# EAGLE library part MCU-K1986BE1QI (library MakBit)
Milandr K1986BE1QI LQFP-144 Cortex-M1 MCU
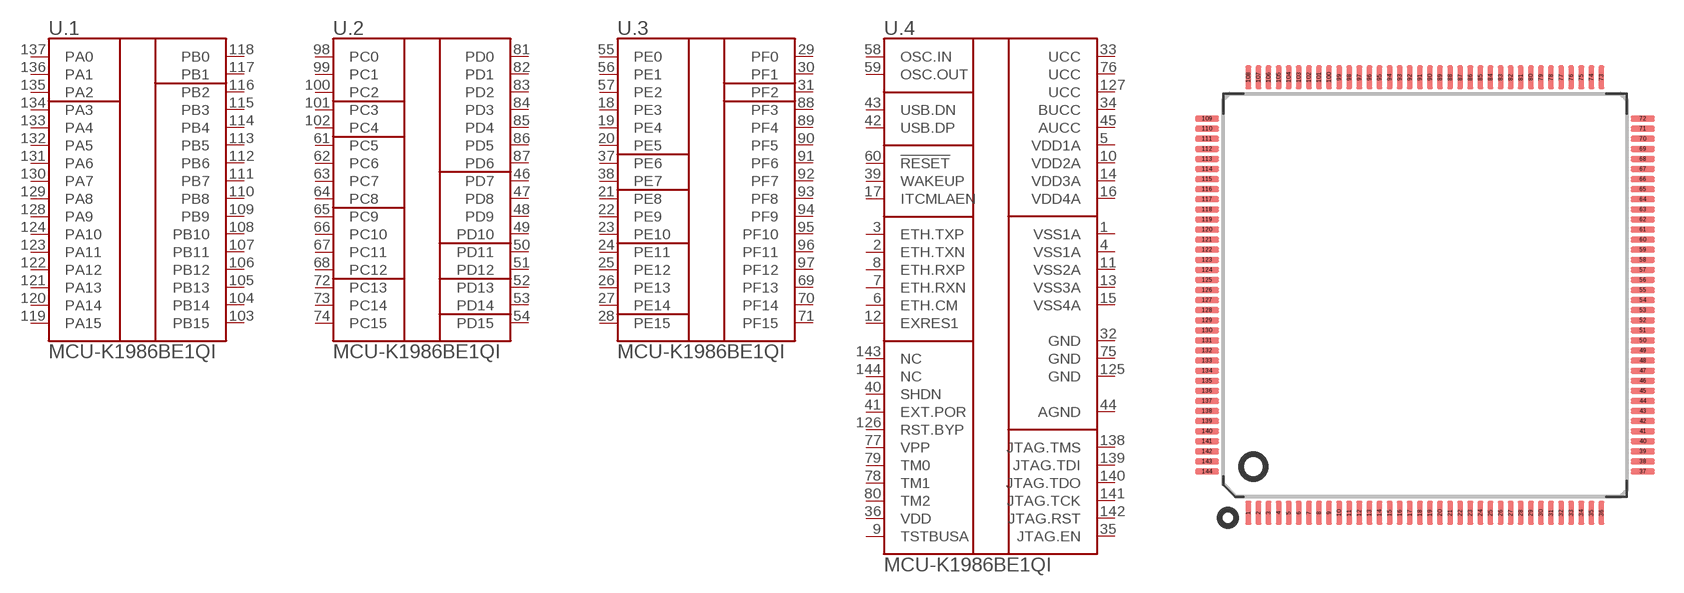
[diagram p18: symbol with the pads of LQFP144-0.5-20X20M; footprint LQFP144-0.5-20X20M]

Designator prefix U; gates .1=MCU-K1986BE1QI-1 .2=MCU-K1986BE1QI-2 .3=MCU-K1986BE1QI-3 .4=MCU-K1986BE1QI-4

## MCU-K1986BE1QI  [LQFP144-0.5-20X20M]
1  .4:VSS1A
2  .4:ETH.TXN
3  .4:ETH.TXP
4  .4:VSS1A
5  .4:VDD1A
6  .4:ETH.CM
7  .4:ETH.RXN
8  .4:ETH.RXP
9  .4:TSTBUSA
10  .4:VDD2A
11  .4:VSS2A
12  .4:EXRES1
13  .4:VSS3A
14  .4:VDD3A
15  .4:VSS4A
16  .4:VDD4A
17  .4:ITCMLAEN
18  .3:PE3
19  .3:PE4
20  .3:PE5
21  .3:PE8
22  .3:PE9
23  .3:PE10
24  .3:PE11
25  .3:PE12
26  .3:PE13
27  .3:PE14
28  .3:PE15
29  .3:PF0
30  .3:PF1
31  .3:PF2
32  .4:GND
33  .4:UCC
34  .4:BUCC
35  .4:JTAG.EN
36  .4:VDD
37  .3:PE6
38  .3:PE7
39  .4:WAKEUP
40  .4:SHDN
41  .4:EXT.POR
42  .4:USB.DP
43  .4:USB.DN
44  .4:AGND
45  .4:AUCC
46  .2:PD7
47  .2:PD8
48  .2:PD9
49  .2:PD10
50  .2:PD11
51  .2:PD12
52  .2:PD13
53  .2:PD14
54  .2:PD15
55  .3:PE0
56  .3:PE1
57  .3:PE2
58  .4:OSC.IN
59  .4:OSC.OUT
60  .4:!RESET
61  .2:PC5
62  .2:PC6
63  .2:PC7
64  .2:PC8
65  .2:PC9
66  .2:PC10
67  .2:PC11
68  .2:PC12
69  .3:PF13
70  .3:PF14
71  .3:PF15
72  .2:PC13
73  .2:PC14
74  .2:PC15
75  .4:GND
76  .4:UCC
77  .4:VPP
78  .4:TM1
79  .4:TM0
80  .4:TM2
81  .2:PD0
82  .2:PD1
83  .2:PD2
84  .2:PD3
85  .2:PD4
86  .2:PD5
87  .2:PD6
88  .3:PF3
89  .3:PF4
90  .3:PF5
91  .3:PF6
92  .3:PF7
93  .3:PF8
94  .3:PF9
95  .3:PF10
96  .3:PF11
97  .3:PF12
98  .2:PC0
99  .2:PC1
100  .2:PC2
101  .2:PC3
102  .2:PC4
103  .1:PB15
104  .1:PB14
105  .1:PB13
106  .1:PB12
107  .1:PB11
108  .1:PB10
109  .1:PB9
110  .1:PB8
111  .1:PB7
112  .1:PB6
113  .1:PB5
114  .1:PB4
115  .1:PB3
116  .1:PB2
117  .1:PB1
118  .1:PB0
119  .1:PA15
120  .1:PA14
121  .1:PA13
122  .1:PA12
123  .1:PA11
124  .1:PA10
125  .4:GND
126  .4:RST.BYP
127  .4:UCC
128  .1:PA9
129  .1:PA8
130  .1:PA7
131  .1:PA6
132  .1:PA5
133  .1:PA4
134  .1:PA3
135  .1:PA2
136  .1:PA1
137  .1:PA0
138  .4:JTAG.TMS
139  .4:JTAG.TDI
140  .4:JTAG.TDO
141  .4:JTAG.TCK
142  .4:JTAG.RST
143  .4:NC
144  .4:NC

## Footprint LQFP144-0.5-20X20M (pad centres in mm)
QFP144 shrink quad flat pack, square (smd-ipc)
smd 0.3 x 1.2: 1 -8.75,-10.8; 2 -8.25,-10.8; 3 -7.75,-10.8; 4 -7.25,-10.8; 5 -6.75,-10.8; 6 -6.25,-10.8; 7 -5.75,-10.8; 8 -5.25,-10.8; 9 -4.75,-10.8; 10 -4.25,-10.8; 11 -3.75,-10.8; 12 -3.25,-10.8; 13 -2.75,-10.8; 14 -2.25,-10.8; 15 -1.75,-10.8; 16 -1.25,-10.8; 17 -0.75,-10.8; 18 -0.25,-10.8; 19 0.25,-10.8; 20 0.75,-10.8; 21 1.25,-10.8; 22 1.75,-10.8; 23 2.25,-10.8; 24 2.75,-10.8; 25 3.25,-10.8; 26 3.75,-10.8; 27 4.25,-10.8; 28 4.75,-10.8; 29 5.25,-10.8; 30 5.75,-10.8; 31 6.25,-10.8; 32 6.75,-10.8; 33 7.25,-10.8; 34 7.75,-10.8; 35 8.25,-10.8; 36 8.75,-10.8; 73 8.75,10.8; 74 8.25,10.8; 75 7.75,10.8; 76 7.25,10.8; 77 6.75,10.8; 78 6.25,10.8; 79 5.75,10.8; 80 5.25,10.8; 81 4.75,10.8; 82 4.25,10.8; 83 3.75,10.8; 84 3.25,10.8; 85 2.75,10.8; 86 2.25,10.8; 87 1.75,10.8; 88 1.25,10.8; 89 0.75,10.8; 90 0.25,10.8; 91 -0.25,10.8; 92 -0.75,10.8; 93 -1.25,10.8; 94 -1.75,10.8; 95 -2.25,10.8; 96 -2.75,10.8; 97 -3.25,10.8; 98 -3.75,10.8; 99 -4.25,10.8; 100 -4.75,10.8; 101 -5.25,10.8; 102 -5.75,10.8; 103 -6.25,10.8; 104 -6.75,10.8; 105 -7.25,10.8; 106 -7.75,10.8; 107 -8.25,10.8; 108 -8.75,10.8
smd 1.2 x 0.3: 37 10.8,-8.75; 38 10.8,-8.25; 39 10.8,-7.75; 40 10.8,-7.25; 41 10.8,-6.75; 42 10.8,-6.25; 43 10.8,-5.75; 44 10.8,-5.25; 45 10.8,-4.75; 46 10.8,-4.25; 47 10.8,-3.75; 48 10.8,-3.25; 49 10.8,-2.75; 50 10.8,-2.25; 51 10.8,-1.75; 52 10.8,-1.25; 53 10.8,-0.75; 54 10.8,-0.25; 55 10.8,0.25; 56 10.8,0.75; 57 10.8,1.25; 58 10.8,1.75; 59 10.8,2.25; 60 10.8,2.75; 61 10.8,3.25; 62 10.8,3.75; 63 10.8,4.25; 64 10.8,4.75; 65 10.8,5.25; 66 10.8,5.75; 67 10.8,6.25; 68 10.8,6.75; 69 10.8,7.25; 70 10.8,7.75; 71 10.8,8.25; 72 10.8,8.75; 109 -10.8,8.75; 110 -10.8,8.25; 111 -10.8,7.75; 112 -10.8,7.25; 113 -10.8,6.75; 114 -10.8,6.25; 115 -10.8,5.75; 116 -10.8,5.25; 117 -10.8,4.75; 118 -10.8,4.25; 119 -10.8,3.75; 120 -10.8,3.25; 121 -10.8,2.75; 122 -10.8,2.25; 123 -10.8,1.75; 124 -10.8,1.25; 125 -10.8,0.75; 126 -10.8,0.25; 127 -10.8,-0.25; 128 -10.8,-0.75; 129 -10.8,-1.25; 130 -10.8,-1.75; 131 -10.8,-2.25; 132 -10.8,-2.75; 133 -10.8,-3.25; 134 -10.8,-3.75; 135 -10.8,-4.25; 136 -10.8,-4.75; 137 -10.8,-5.25; 138 -10.8,-5.75; 139 -10.8,-6.25; 140 -10.8,-6.75; 141 -10.8,-7.25; 142 -10.8,-7.75; 143 -10.8,-8.25; 144 -10.8,-8.75